# EAGLE library part TCAN1051DRBRQ1 (library TCAN1051DRBRQ1)
Automotive Fault Protected CAN Transceiver With Flexible Data-Rate Source: Datasheet <http://www.ti.com/lit/gpn/TCAN1051-Q1>
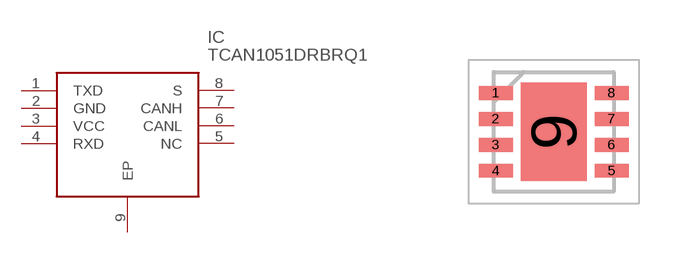
[diagram p0: symbol with the pads of SON65P300X300X100-9N; footprint SON65P300X300X100-9N]

Designator prefix IC

## TCAN1051DRBRQ1 (Description: Automotive Fault Protected CAN Transceiver With Flexible Data-Rate; Height: 1mm; Manufacturer_Name: Texas Instruments; Manufacturer_Part_Number: TCAN1051DRBRQ1; Mouser_Part_Number: 595-TCAN1051DRBRQ1; Mouser_Price-Stock: https://www.mouser.co.uk/ProductDetail/Texas-Instruments/TCAN1051DRBRQ1?qs=HXFqYaX1Q2zpm8gPQfcrEA%3D%3D)  [SON65P300X300X100-9N]
1  TXD
2  GND
3  VCC
4  RXD
5  NC  nc
6  CANL
7  CANH
8  S
9  EP

## Footprint SON65P300X300X100-9N (pad centres in mm)
DRB0008F
smd 0.85 x 0.35: 1 -1.45,0.975; 2 -1.45,0.325; 3 -1.45,-0.325; 4 -1.45,-0.975; 5 1.45,-0.975; 6 1.45,-0.325; 7 1.45,0.325; 8 1.45,0.975
smd 1.65 x 2.45: 9 0,0